# Altium footprint library Cypress Semiconductor.PcbLib: 1 footprints
Each footprint in its own frame and in the unit in brackets; x right, y up, seen from the top. Pads: shape width x height; smd on the part's side, far side on the other; paste and mask are expansions set on the pad; w line width, h text height; cw(c..) or ccw(c..) is an arc to the next point about the centre after c.
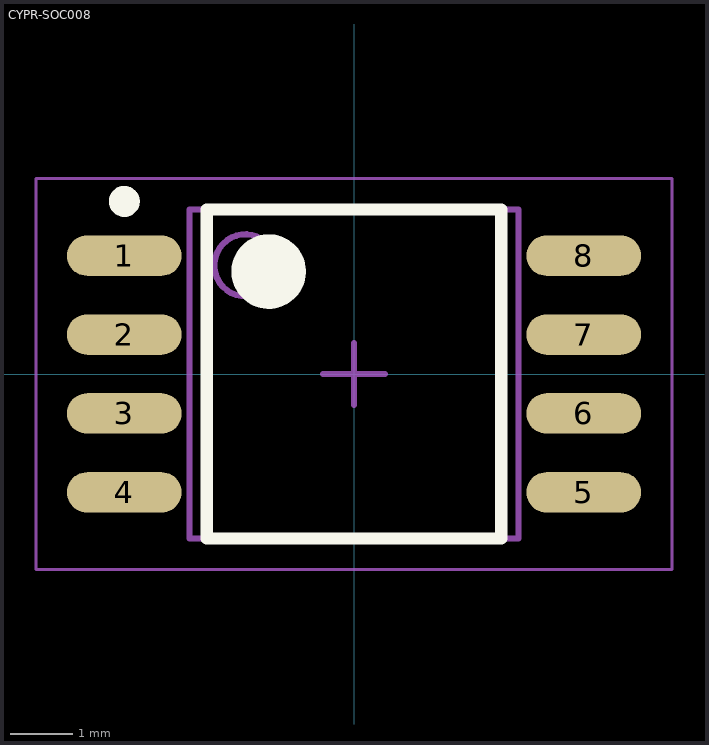
[diagram p0: the footprint, top view; thin cyan lines are the x and y axes]

## CYPR-SOC008 [mm] "SOIC, 8-Leads, Body 5.28x5.28mm, Pitch 1.27mm, IPC Low Density"
height 2.16
pads (8):
  oval 1.85x0.65 smd: 1(-3.7,1.905) 2(-3.7,0.635) 3(-3.7,-0.635) 4(-3.7,-1.905) 5(3.7,-1.905) 6(3.7,-0.635) 7(3.7,0.635) 8(3.7,1.905)
Top Overlay:
  circle w0.6: c-1.375,1.65 r0.3
  circle w0.25: c-3.7,2.78 r0.125
  lines w0.2: -2.375,-2.65 2.375,-2.65 2.375,2.65 -2.375,2.65 -2.375,-2.65
Mechanical 13:
  circle w0.1: c-1.75,1.75 r0.5
  lines w0.1: -2.65,-2.65 2.65,-2.65 2.65,2.65 -2.65,2.65 -2.65,-2.65
Mechanical 15:
  lines w0.05: -5.125,-3.15 5.125,-3.15 5.125,3.15 -5.125,3.15 -5.125,-3.15
  lines w0.1: -0.5,0 0.5,0 ; 0,-0.5 0,0.5
3D body "CYPR-SOC008.step": height 2.16, standoff 0, extent -4,-2.65 4,2.65